# Altium footprint library PX4FMUv2.4.6.PcbLib: 53 footprints (part 1 of 4)
Each footprint in its own frame and in the unit in brackets; x right, y up, seen from the top. Pads: shape width x height; smd on the part's side, far side on the other; paste and mask are expansions set on the pad; w line width, h text height; cw(c..) or ccw(c..) is an arc to the next point about the centre after c.
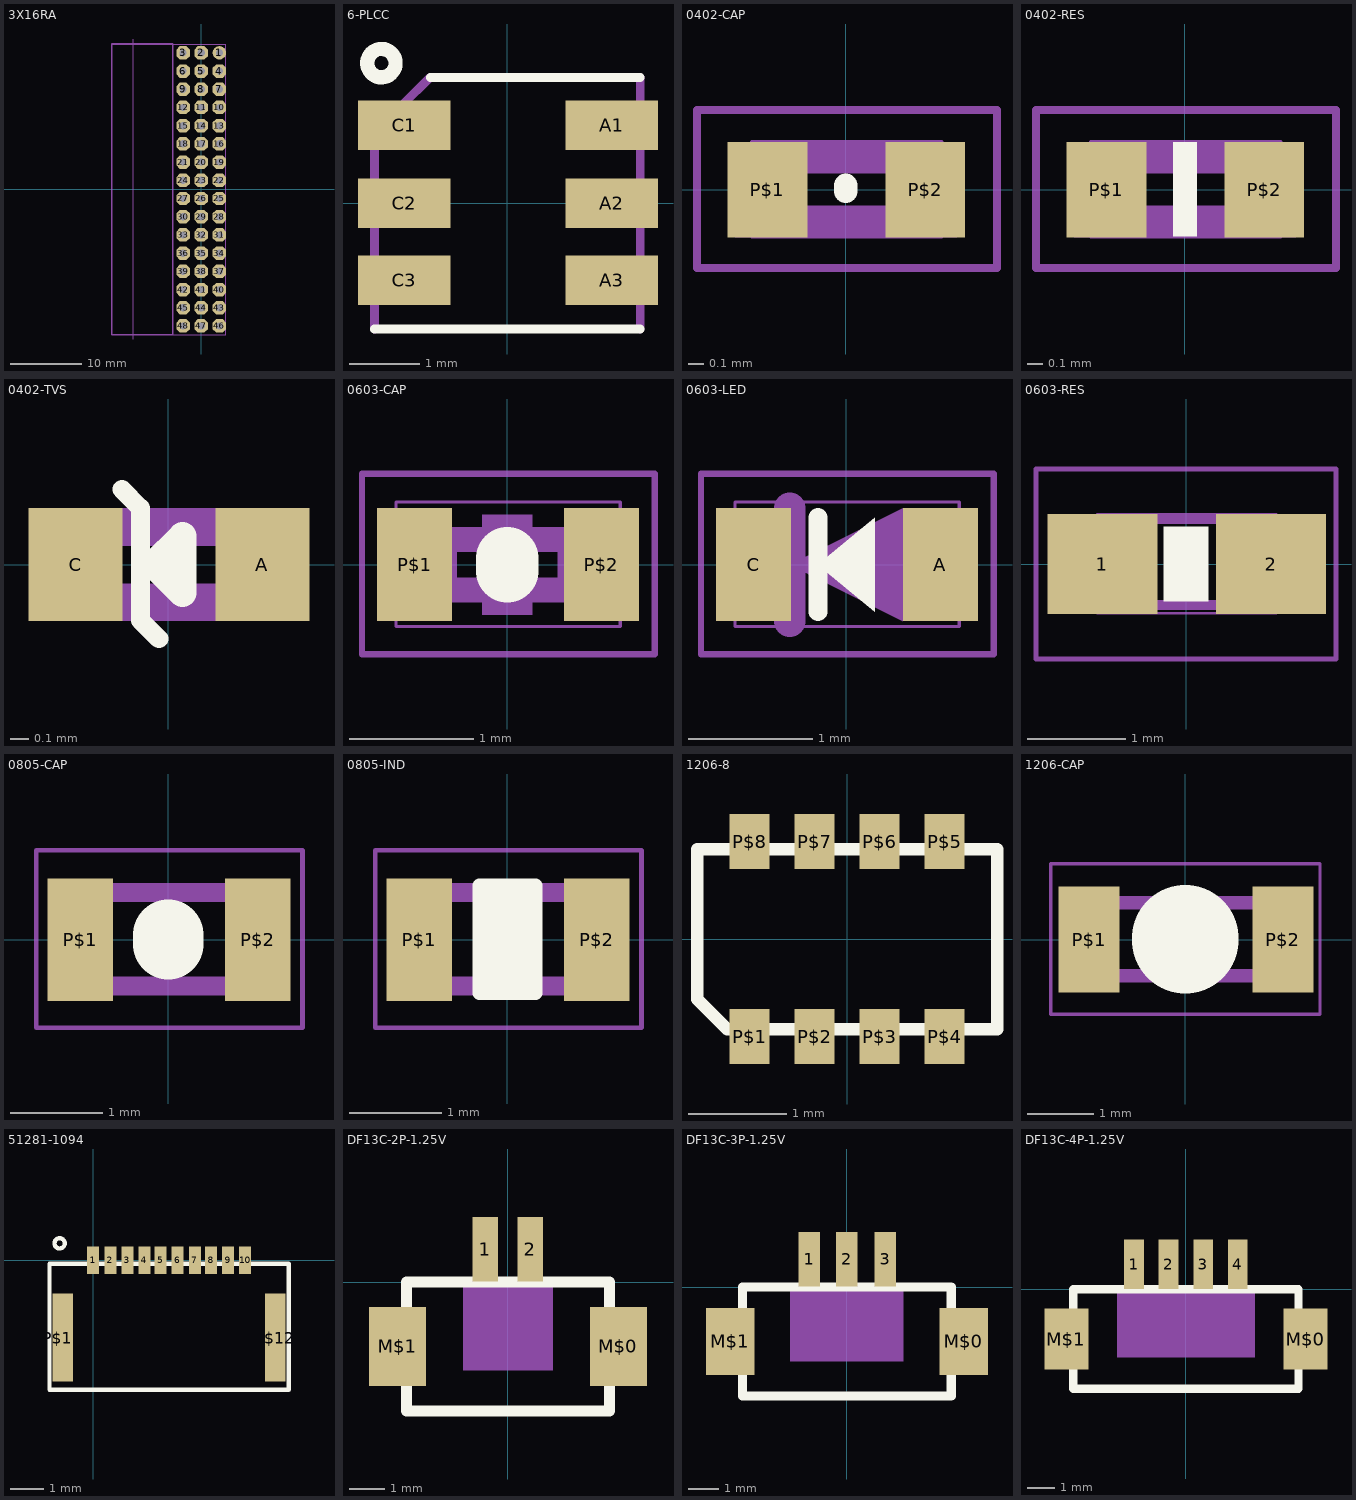
[diagram p0: the footprints below, top view; thin cyan lines are the x and y axes]

## 3X16RA [mil] "3X16RA"
pads (48):
  round 74 hole 40: 1(100,750)
  oct 74x74 hole 40: 2(0,750) 3(-100,750) 4(100,650) 5(0,650) 6(-100,650) 7(100,550) 8(0,550) 9(-100,550) 10(100,450) 11(0,450) 12(-100,450) 13(100,350) 14(0,350) 15(-100,350) 16(100,250) 17(0,250) 18(-100,250) 19(100,150) 20(0,150) 21(-100,150) 22(100,50) 23(0,50) 24(-100,50) 25(100,-50) 26(0,-50) 27(-100,-50) 28(100,-150) 29(0,-150) 30(-100,-150) 31(100,-250) 32(0,-250) 33(-100,-250) 34(100,-350) 35(0,-350) 36(-100,-350) 37(100,-450) 38(0,-450) 39(-100,-450) 40(100,-550) 41(0,-550) 42(-100,-550) 43(100,-650) 44(0,-650) 45(-100,-650) 46(100,-750) 47(0,-750) 48(-100,-750)
Mechanical 16:
  region: 90,760 90,740 110,740 110,760
  region: -10,760 -10,740 10,740 10,760
  region: 90,660 90,640 110,640 110,660
  region: -110,760 -110,740 -90,740 -90,760
  region: -110,660 -110,640 -90,640 -90,660
  region: -10,660 -10,640 10,640 10,660
  region: -110,60 -110,40 -90,40 -90,60
  region: -10,60 -10,40 10,40 10,60
  region: 90,560 90,540 110,540 110,560
  region: -10,560 -10,540 10,540 10,560
  region: -110,560 -110,540 -90,540 -90,560
  region: -10,460 -10,440 10,440 10,460
  region: 90,460 90,440 110,440 110,460
  region: -110,460 -110,440 -90,440 -90,460
  region: 90,360 90,340 110,340 110,360
  region: -10,360 -10,340 10,340 10,360
  region: -110,360 -110,340 -90,340 -90,360
  region: 90,260 90,240 110,240 110,260
  region: -10,260 -10,240 10,240 10,260
  region: -110,260 -110,240 -90,240 -90,260
  region: 90,160 90,140 110,140 110,160
  region: -10,160 -10,140 10,140 10,160
  region: -110,160 -110,140 -90,140 -90,160
  region: 90,60 90,40 110,40 110,60
  region: 90,-40 90,-60 110,-60 110,-40
  region: -10,-40 -10,-60 10,-60 10,-40
  region: 90,-140 90,-160 110,-160 110,-140
  region: -110,-40 -110,-60 -90,-60 -90,-40
  region: -110,-140 -110,-160 -90,-160 -90,-140
  region: -10,-140 -10,-160 10,-160 10,-140
  region: -110,-740 -110,-760 -90,-760 -90,-740
  region: -10,-740 -10,-760 10,-760 10,-740
  region: 90,-240 90,-260 110,-260 110,-240
  region: -10,-240 -10,-260 10,-260 10,-240
  region: -110,-240 -110,-260 -90,-260 -90,-240
  region: -10,-340 -10,-360 10,-360 10,-340
  region: 90,-340 90,-360 110,-360 110,-340
  region: -110,-340 -110,-360 -90,-360 -90,-340
  region: 90,-440 90,-460 110,-460 110,-440
  region: -10,-440 -10,-460 10,-460 10,-440
  region: -110,-440 -110,-460 -90,-460 -90,-440
  region: 90,-540 90,-560 110,-560 110,-540
  region: -10,-540 -10,-560 10,-560 10,-540
  region: -110,-540 -110,-560 -90,-560 -90,-540
  region: 90,-640 90,-660 110,-660 110,-640
  region: -10,-640 -10,-660 10,-660 10,-640
  region: -110,-640 -110,-660 -90,-660 -90,-640
  region: 90,-740 90,-760 110,-760 110,-740
  lines w1: -490.94,-797.64 136,-797.64 136,-2.36 136,798 -490.94,798 -490.94,-2.36 -490.94,-797.64
  lines w5: -372.83,-821.65 -372.83,26 ; -372.83,-21.65 -372.83,826
  lines w8: -490.94,-1.97 -490.94,-798.03 -156.3,-798.03 -156.3,-1.97 ; -490.94,2 -490.94,799 -156.3,799 -156.3,2

## 6-PLCC [mil] "6-PLCC"
pads (6):
  rect 52x28 smd: A1(59,44) A2(59,0) A3(59,-43.31) C1(-58.07,44) C2(-58.07,0) C3(-58.07,-43.31)
Top Overlay:
  circle w8: c-70.87,79 r8
  lines w5: -74.8,-70.87 75,-70.87 ; -43.31,71 75,71
Mechanical 16:
  lines w5: -74.8,-70.87 -74.8,40 -43.31,71 ; 75,-70.87 75,71

## 0402-CAP [mil] "0402-CAP"
pads (2):
  rect 20x24 smd: P$1(-19.68,0) P$2(20,0)
Top Overlay:
  lines w6: 0,-0.39 0,1
Mechanical 16:
  rectangle: 16,-12 28,12
  rectangle: -28,-12 -16,12
  lines w1: -23.62,-11.81 -23.62,12 24,12 24,-11.81 -23.62,-11.81
  lines w2: -37.4,-19.68 -37.4,20 38,20 38,-19.68 -37.4,-19.68
  lines w8: -20,-8 20,-8 ; -20,8 20,8

## 0402-RES [mil] "0402-RES"
pads (2):
  rect 20x24 smd: P$1(-19.68,0) P$2(20,0)
Top Overlay:
  rectangle: -3,-11.81 3,12
Mechanical 16:
  rectangle: 16,-12 28,12
  rectangle: -28,-12 -16,12
  lines w1: -23.62,-11.81 -23.62,12 24,12 24,-11.81 -23.62,-11.81
  lines w2: -37.4,-19.68 -37.4,20 38,20 38,-19.68 -37.4,-19.68
  lines w8: -20,-8 20,-8 ; -20,8 20,8

## 0402-TVS [mil] "0402-TVS"
pads (2):
  rect 20x24 smd: A(20,0) C(-19.68,0)
Top Overlay:
  lines w4: -9.84,16 -5.91,12 -5.91,-11.81 -1.97,-15.75
  lines w6: -3,0 3,0 ; -3,0 3,-6 3,0 ; -3,0 3,6 3,0
Mechanical 16:
  rectangle: 16,-12 28,12
  rectangle: -28,-12 -16,12
  lines w8: -20,-8 20,-8 ; -20,8 20,8

## 0603-CAP [mil] "0603-CAP"
pads (2):
  rect 24x36 smd: P$1(-29.53,0) P$2(30,0)
Top Overlay:
  lines w20: 0,-2 0,2
Mechanical 6:
  rectangle: -8,-16 8,16
  rectangle: -7.87,-11.81 8,12
Mechanical 16:
  rectangle: 16,-12 28,12
  rectangle: 16,-12 28,12
  rectangle: -28,-12 -16,12
  lines w1: -35.43,-19.68 -35.43,20 36,20 36,-19.68 -35.43,-19.68
  lines w2: -46.26,-28.54 -46.26,29 47,29 47,-28.54 -46.26,-28.54
  lines w8: -20,-8 20,-8 ; -20,8 20,8

## 0603-LED [mil] "0603-LED"
pads (2):
  rect 24x36 smd: A(30,0) C(-29.53,0)
Top Overlay:
  region: -9,0 9,15 9,-15
  lines w6: -9,-15 -9,15
Mechanical 16:
  region: -18,0 18,18 18,-18
  lines w1: -35.43,-19.68 36,-19.68 36,20 -35.43,20 -35.43,-19.68
  lines w2: -46.26,-28.54 47,-28.54 47,29 -46.26,29 -46.26,-28.54
  lines w10: -18,-18 -18,18

## 0603-RES [mil] "0603-RES"
pads (2):
  rect 44x40 smd: 1(-33.46,0) 2(34,0)
Top Overlay:
  rectangle: -9,-15 9,15
Mechanical 6:
  rectangle: -7.87,-11.81 8,12
Mechanical 16:
  rectangle: -33,-18.5 -13.31,19
  rectangle: 13,-18.5 33,19
  lines w1: -35.43,-19.68 36,-19.68 36,20 -35.43,20 -35.43,-19.68
  lines w2: -60,-38 60,-38 60,38 -60,38 -60,-38
  lines w4: -14.02,-16.5 15,-16.5 ; -14.02,18 15,18

## 0805-CAP [mil] "0805-CAP"
pads (2):
  rect 28x52 smd: P$1(-37.4,0) P$2(38,0)
Top Overlay:
  lines w30: 0,-2 0,2
Mechanical 16:
  rectangle: -39.37,-23.67 -23.62,24
  rectangle: 24,-23.67 40,24
  lines w2: -56.1,-37.4 57,-37.4 57,38 -56.1,38 -56.1,-37.4
  lines w8: -23.62,-19.68 24,-19.68 ; -23.62,20 24,20

## 0805-IND [mil] "0805-IND"
pads (2):
  rect 28x52 smd: P$1(-37.4,0) P$2(38,0)
Top Overlay:
  rectangle: -11.77,-22.59 12,23
  lines w6: -11.76,-22.59 -11.76,23 12,23 12,-22.59 -11.76,-22.59
Mechanical 16:
  rectangle: -39.37,-23.67 -23.62,24
  rectangle: 24,-23.67 40,24
  lines w2: -56.1,-37.4 57,-37.4 57,38 -56.1,38 -56.1,-37.4
  lines w8: -23.62,-19.68 24,-19.68 ; -23.62,20 24,20

## 1206-8 [mil] "1206-8"
pads (8):
  rect 16x22 smd: P$1(-39,-39) P$2(-13,-39) P$3(13,-39) P$4(39,-39) P$5(39,39) P$6(13,39) P$7(-13,39) P$8(-39,39)
Top Overlay:
  lines w5: -60,-24 -60,36 60,36 60,-36 -48,-36 -60,-24

## 1206-CAP [mil] "1206-CAP"
pads (2):
  rect 36x63 smd: P$1(-57.09,0) P$2(58,0)
Top Overlay:
  lines w63: 0,-0.39 0,1
Mechanical 16:
  rectangle: -68.9,-25.59 -45.28,26
  rectangle: 46,-25.59 69,26
  lines w2: -79.72,-44.29 80,-44.29 80,45 -79.72,45 -79.72,-44.29
  lines w8: -45.28,-21.59 46,-21.59 ; -45.28,22 46,22

## 51281-1094 [mil] "51281-1094"
pads (12):
  rect 14x32 smd: 1(0,0) 2(20,0) 3(40,0) 4(60,0) 5(79,0) 6(99,0) 7(119,0) 8(138,0) 9(158,0) 10(178,0)
  rect 24x103 smd: P$11(-35.43,-90.55) P$12(213,-90.55)
Top Overlay:
  circle w5: c-39.37,20 r6
  lines w5: -51.18,-151.57 229,-151.57 ; -51.18,-149.61 -51.18,-3.94 229,-3.94 229,-149.61

## DF13C-2P-1.25V [mil] "DF13C-2P-1.25V"
pads (4):
  rect 28x71 smd: 1(-24.61,36) 2(25,36)
  rect 63x87 smd: M$0(122,-70.87) M$1(-121.06,-70.87)
Top Overlay:
  lines w12: -111.22,-141.73 112,-141.73 112,0 -111.22,0 -111.22,-141.73
  text "." at -87.6,61 h155
Mechanical 16:
  rectangle: -49.21,-97.24 50,-3.94

## DF13C-3P-1.25V [mil] "DF13C-3P-1.25V"
pads (5):
  rect 28x71 smd: 1(-49.21,36) 2(0,36) 3(50,36)
  rect 63x87 smd: M$0(152,-70.87) M$1(-151.57,-70.87)
Top Overlay:
  lines w12: -135.83,-141.73 136,-141.73 136,0 -135.83,0 -135.83,-141.73
  text "." at -112.2,61 h155
Mechanical 16:
  rectangle: -73.82,-97.24 74,-3.94

## DF13C-4P-1.25V [mil] "DF13C-4P-1.25V"
pads (6):
  rect 28x71 smd: 1(-73.82,36) 2(-24.61,36) 3(25,36) 4(74,36)
  rect 63x87 smd: M$0(171,-70.87) M$1(-170.28,-70.87)
Top Overlay:
  lines w12: -160.43,-141.73 161,-141.73 161,0 -160.43,0 -160.43,-141.73
  text "." at -136.81,61 h155
Mechanical 16:
  rectangle: -98.43,-97.44 99,-3.94